# Altium integrated library CR0603AJ_-000EAS.IntLib: 1 symbol
Pins are listed as number, name and electrical type; pins without a type are passive.

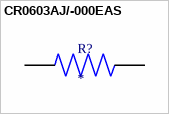
[diagram p0: symbol CR0603AJ/-000EAS]

## CR0603AJ/-000EAS
designator R?
Resistor, AS 0603 0R Jumper 100mW, AEC-Q, Anti-Sulur | Bourns CR0603AJ/-000EAS; MF: Bourns Inc.; SnapEDA_Link: https://www.snapeda.com/parts/CR0603AJ/-000EAS/Bourns/view-part/?ref=snap; Package: 0603-2 Bourns; Value: *; MP: CR0603AJ/-000EAS; Check_prices: https://www.snapeda.com/parts/CR0603AJ/-000EAS/Bourns/view-part/?ref=eda
footprint RESC1608X55N
pins: 1, 2